# EAGLE library part TERMINAL_BLOCK_16 (library harrison)
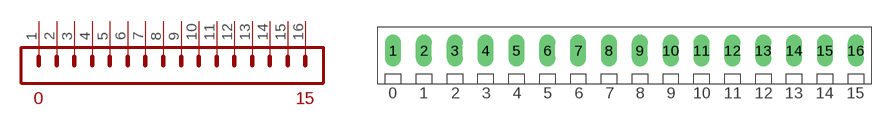
[diagram p81: symbol with the pads of TERMINAL_BLOCK_3.5MM_16; footprint TERMINAL_BLOCK_3.5MM_16]

Designator prefix S

## TERMINAL_BLOCK_16-3.5MM  [TERMINAL_BLOCK_3.5MM_16]
1  0  pas
2  1  pas
3  2  pas
4  3  pas
5  4  pas
6  5  pas
7  6  pas
8  7  pas
9  8  pas
10  9  pas
11  10  pas
12  11  pas
13  12  pas
14  13  pas
15  14  pas
16  15  pas

## Footprint TERMINAL_BLOCK_3.5MM_16 (pad centres in mm)
drill 1.2 long: 1 -26.25,0; 2 -22.75,0; 3 -19.25,0; 4 -15.75,0; 5 -12.25,0; 6 -8.75,0; 7 -5.25,0; 8 -1.75,0; 9 1.75,0; 10 5.25,0; 11 8.75,0; 12 12.25,0; 13 15.75,0; 14 19.25,0; 15 22.75,0; 16 26.25,0